# EAGLE library part SAM21D_M0-MINI (library SAM21D_M0-MINI_Footprint)
Footprint SAMD21 M0-MINI
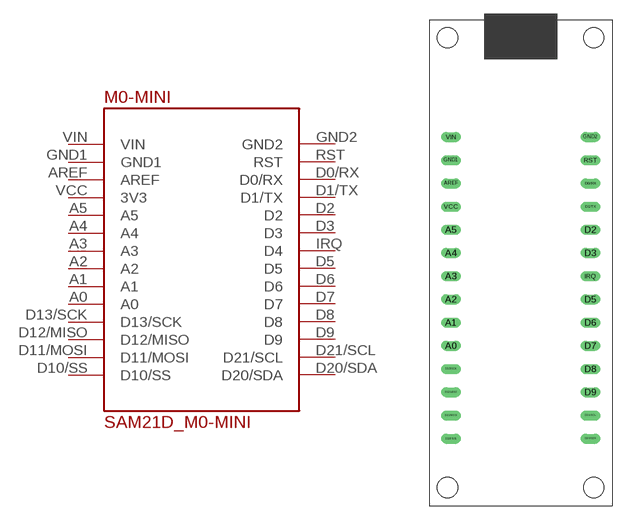
[diagram p0: symbol with the pads of SAMD21_M0-MINI; footprint SAMD21_M0-MINI]

Designator prefix M0-MINI

## SAM21D_M0-MINI  [SAMD21_M0-MINI]
A0  A0
A1  A1
A2  A2
A3  A3
A4  A4
A5  A5
AREF  AREF
D0/RX  D0/RX
D1/TX  D1/TX
D2  D2
D3  D3
D5  D5
D6  D6
D7  D7
D8  D8
D9  D9
D10/SS  D10/SS
D11/MOSI  D11/MOSI
D12/MISO  D12/MISO
D13/SCK  D13/SCK
D20/SDA  D20/SDA
D21/SCL  D21/SCL
GND1  GND1  pwr
GND2  GND2
IRQ  D4
RST  RST
VCC  3V3  pwr
VIN  VIN  pwr

## Footprint SAMD21_M0-MINI (pad centres in mm)
drill 0.6 long: A0 -7.62,-6.35; A1 -7.62,-3.81; A2 -7.62,-1.27; A3 -7.62,1.27; A4 -7.62,3.81; A5 -7.62,6.35; AREF -7.62,11.43; D0/RX 7.62,11.43; D1/TX 7.62,8.89; D2 7.62,6.35; D3 7.62,3.81; D5 7.62,-1.27; D6 7.62,-3.81; D7 7.62,-6.35; D8 7.62,-8.89; D9 7.62,-11.43; D10/SS -7.62,-16.51; D11/MOSI -7.62,-13.97; D12/MISO -7.62,-11.43; D13/SCK -7.62,-8.89; D20/SDA 7.62,-16.51; D21/SCL 7.62,-13.97; GND1 -7.62,13.97; GND2 7.62,16.51; IRQ 7.62,1.27; RST 7.62,13.97; VCC -7.62,8.89; VIN -7.62,16.51